# Altium footprint library PZ_PCBLIB_21Z.PcbLib: 17 footprints (part 2 of 2)
Each footprint in its own frame and in the unit in brackets; x right, y up, seen from the top. Pads: shape width x height; smd on the part's side, far side on the other; paste and mask are expansions set on the pad; w line width, h text height; cw(c..) or ccw(c..) is an arc to the next point about the centre after c.
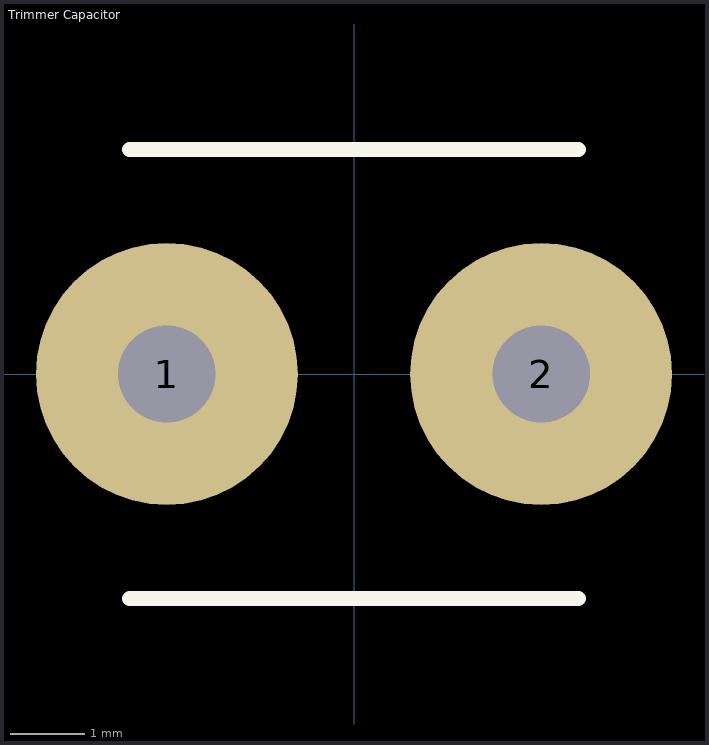
[diagram p1: the footprint, top view; thin cyan lines are the x and y axes]

## Trimmer Capacitor [mm]
pads (2):
  round 3.5 hole 1.3: 1(-2.5,0) 2(2.5,0)
Top Overlay:
  lines w0.2: -3,-3 3,-3 ; -3,3 3,3
3D body: height 4.8, standoff 0, extent -3,-3 3,3